# Altium footprint library MT7688_Lib.PcbLib: 7 footprints
Each footprint in its own frame and in the unit in brackets; x right, y up, seen from the top. Pads: shape width x height; smd on the part's side, far side on the other; paste and mask are expansions set on the pad; w line width, h text height; cw(c..) or ccw(c..) is an arc to the next point about the centre after c.
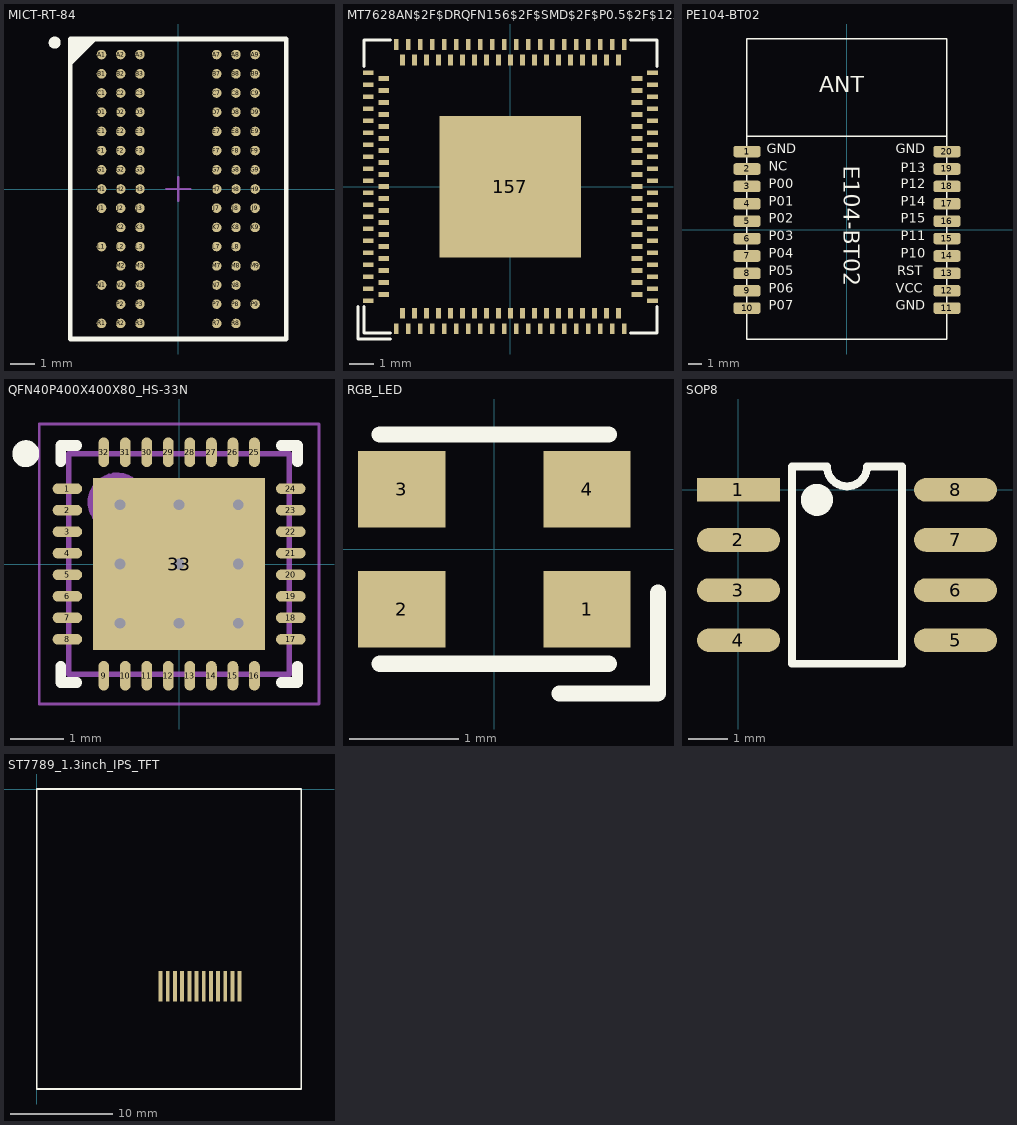
[diagram p0: the footprints below, top view; thin cyan lines are the x and y axes]

## MICT-RT-84 [mm] "BGA, 84-Balls, Body 12.5x9mm, Pitch 0.8mm"
pads (84):
  round 0.4 smd: A1(-3.2,5.6) A2(-2.4,5.6) A3(-1.6,5.6) A7(1.6,5.6) A8(2.4,5.6) A9(3.2,5.6) B1(-3.2,4.8) B2(-2.4,4.8) B3(-1.6,4.8) B7(1.6,4.8) B8(2.4,4.8) B9(3.2,4.8) C1(-3.2,4) C2(-2.4,4) C3(-1.6,4) C7(1.6,4) C8(2.4,4) C9(3.2,4) D1(-3.2,3.2) D2(-2.4,3.2) D3(-1.6,3.2) D7(1.6,3.2) D8(2.4,3.2) D9(3.2,3.2) E1(-3.2,2.4) E2(-2.4,2.4) E3(-1.6,2.4) E7(1.6,2.4) E8(2.4,2.4) E9(3.2,2.4) F1(-3.2,1.6) F2(-2.4,1.6) F3(-1.6,1.6) F7(1.6,1.6) F8(2.4,1.6) F9(3.2,1.6) G1(-3.2,0.8) G2(-2.4,0.8) G3(-1.6,0.8) G7(1.6,0.8) G8(2.4,0.8) G9(3.2,0.8) H1(-3.2,0) H2(-2.4,0) H3(-1.6,0) H7(1.6,0) H8(2.4,0) H9(3.2,0) J1(-3.2,-0.8) J2(-2.4,-0.8) J3(-1.6,-0.8) J7(1.6,-0.8) J8(2.4,-0.8) J9(3.2,-0.8) K2(-2.4,-1.6) K3(-1.6,-1.6) K7(1.6,-1.6) K8(2.4,-1.6) K9(3.2,-1.6) L1(-3.2,-2.4) L2(-2.4,-2.4) L3(-1.6,-2.4) L7(1.6,-2.4) L8(2.4,-2.4) M2(-2.4,-3.2) M3(-1.6,-3.2) M7(1.6,-3.2) M8(2.4,-3.2) M9(3.2,-3.2) N1(-3.2,-4) N2(-2.4,-4) N3(-1.6,-4) N7(1.6,-4) N8(2.4,-4) P2(-2.4,-4.8) P3(-1.6,-4.8) P7(1.6,-4.8) P8(2.4,-4.8) P9(3.2,-4.8) R1(-3.2,-5.6) R2(-2.4,-5.6) R3(-1.6,-5.6) R7(1.6,-5.6) R8(2.4,-5.6)
Top Overlay:
  circle w0.25: c-5.15,6.1 r0.125
  region: -3.5,6.25 -4.5,5.25 -4.5,6.25
  lines w0.2: -4.5,5.25 -3.5,6.25 ; -4.5,-6.25 4.5,-6.25 4.5,6.25 -4.5,6.25 -4.5,-6.25
Mechanical 13:
  lines w0.1: -4.5,-6.25 4.5,-6.25 4.5,6.25 -4.5,6.25 -4.5,-6.25
Mechanical 15:
  lines w0.1: -0.5,0 0.5,0 ; 0,-0.5 0,0.5
3D body: height 1.2, standoff 0, extent -4.5,-6.25 4.5,6.25

## MT7628AN$2F$DRQFN156$2F$SMD$2F$P0.5$2F$12X12 [mm]
height 0.9
pads (157):
  rect 0.19x0.45 smd: 1(-4.75,-5.925) 3(-4.25,-5.925) 5(-3.75,-5.925) 7(-3.25,-5.925) 9(-2.75,-5.925) 11(-2.25,-5.925) 13(-1.75,-5.925) 15(-1.25,-5.925) 17(-0.75,-5.925) 19(-0.25,-5.925) 21(0.25,-5.925) 23(0.75,-5.925) 25(1.25,-5.925) 27(1.75,-5.925) 29(2.25,-5.925) 31(2.75,-5.925) 33(3.25,-5.925) 35(3.75,-5.925) 37(4.25,-5.925) 39(4.75,-5.925) 79(4.75,5.925) 81(4.25,5.925) 83(3.75,5.925) 85(3.25,5.925) 87(2.75,5.925) 89(2.25,5.925) 91(1.75,5.925) 93(1.25,5.925) 95(0.75,5.925) 97(0.25,5.925) 99(-0.25,5.925) 101(-0.75,5.925) 103(-1.25,5.925) 105(-1.75,5.925) 107(-2.25,5.925) 109(-2.75,5.925) 111(-3.25,5.925) 113(-3.75,5.925) 115(-4.25,5.925) 117(-4.75,5.925)
  rect 0.22x0.45 smd: 2(-4.5,-5.275) 4(-4,-5.275) 6(-3.5,-5.275) 8(-3,-5.275) 10(-2.5,-5.275) 12(-2,-5.275) 14(-1.5,-5.275) 16(-1,-5.275) 18(-0.5,-5.275) 20(0,-5.275) 22(0.5,-5.275) 24(1,-5.275) 26(1.5,-5.275) 28(2,-5.275) 30(2.5,-5.275) 32(3,-5.275) 34(3.5,-5.275) 36(4,-5.275) 38(4.5,-5.275) 80(4.5,5.275) 82(4,5.275) 84(3.5,5.275) 86(3,5.275) 88(2.5,5.275) 90(2,5.275) 92(1.5,5.275) 94(1,5.275) 96(0.5,5.275) 98(0,5.275) 100(-0.5,5.275) 102(-1,5.275) 104(-1.5,5.275) 106(-2,5.275) 108(-2.5,5.275) 110(-3,5.275) 112(-3.5,5.275) 114(-4,5.275) 116(-4.5,5.275)
  rect 0.45x0.19 smd: 40(5.925,-4.75) 42(5.925,-4.25) 44(5.925,-3.75) 46(5.925,-3.25) 48(5.925,-2.75) 50(5.925,-2.25) 52(5.925,-1.75) 54(5.925,-1.25) 56(5.925,-0.75) 58(5.925,-0.25) 60(5.925,0.25) 62(5.925,0.75) 64(5.925,1.25) 66(5.925,1.75) 68(5.925,2.25) 70(5.925,2.75) 72(5.925,3.25) 74(5.925,3.75) 76(5.925,4.25) 78(5.925,4.75) 118(-5.925,4.75) 120(-5.925,4.25) 122(-5.925,3.75) 124(-5.925,3.25) 126(-5.925,2.75) 128(-5.925,2.25) 130(-5.925,1.75) 132(-5.925,1.25) 134(-5.925,0.75) 136(-5.925,0.25) 138(-5.925,-0.25) 140(-5.925,-0.75) 142(-5.925,-1.25) 144(-5.925,-1.75) 146(-5.925,-2.25) 148(-5.925,-2.75) 150(-5.925,-3.25) 152(-5.925,-3.75) 154(-5.925,-4.25) 156(-5.925,-4.75)
  rect 0.45x0.22 smd: 41(5.275,-4.5) 43(5.275,-4) 45(5.275,-3.5) 47(5.275,-3) 49(5.275,-2.5) 51(5.275,-2) 53(5.275,-1.5) 55(5.275,-1) 57(5.275,-0.5) 59(5.275,0) 61(5.275,0.5) 63(5.275,1) 65(5.275,1.5) 67(5.275,2) 69(5.275,2.5) 71(5.275,3) 73(5.275,3.5) 75(5.275,4) 77(5.275,4.5) 119(-5.275,4.5) 121(-5.275,4) 123(-5.275,3.5) 125(-5.275,3) 127(-5.275,2.5) 129(-5.275,2) 131(-5.275,1.5) 133(-5.275,1) 135(-5.275,0.5) 137(-5.275,0) 139(-5.275,-0.5) 141(-5.275,-1) 143(-5.275,-1.5) 145(-5.275,-2) 147(-5.275,-2.5) 149(-5.275,-3) 151(-5.275,-3.5) 153(-5.275,-4) 155(-5.275,-4.5)
  rect 5.9x5.9 smd: 157(0,0)
Top Overlay:
  lines w0.127: -6.35,-5 -6.35,-6.35 -5,-6.35 ; -6.1,-5 -6.1,-6.1 -5,-6.1 ; -6.1,5 -6.1,6.1 -5,6.1 ; 5,-6.1 6.1,-6.1 6.1,-5 ; 5,6.1 6.1,6.1 6.1,5
Top Paste:
  region: 0.2,-0.2 2.7,-0.2 2.7,-2.7 0.2,-2.7
  region: -2.7,-0.2 -0.2,-0.2 -0.2,-2.7 -2.7,-2.7
  region: 0.2,2.7 2.7,2.7 2.7,0.2 0.2,0.2
  region: -2.7,2.7 -0.2,2.7 -0.2,0.2 -2.7,0.2

## PE104-BT02 [mm] "22mm*14.70mm*2.7mm-S"
pads (20):
  rrect50% 2x0.85 smd: 1(-7.3,5.715) 2(-7.3,4.445) 3(-7.3,3.175) 4(-7.3,1.905) 5(-7.3,0.635) 6(-7.3,-0.635) 7(-7.3,-1.905) 8(-7.3,-3.175) 9(-7.3,-4.445) 10(-7.3,-5.715) 11(7.3,-5.715) 12(7.3,-4.445) 13(7.3,-3.175) 14(7.3,-1.905) 15(7.3,-0.635) 16(7.3,0.635) 17(7.3,1.905) 18(7.3,3.175) 19(7.3,4.445) 20(7.3,5.715)
Top Overlay:
  lines w0.1: -7.325,6.823 7.275,6.823 ; -7.325,-7.965 7.275,-7.965 7.275,13.935 -7.325,13.935 -7.325,-7.965
  text "ANT" at -2.032,9.652 h2
  text "E104-BT02" at -0.635,4.699 h2
  text "GND" at 3.556,-6.096 h1.2
  text "VCC" at 3.556,-4.826 h1.2
  text "RST" at 3.683,-3.556 h1.2
  text "P10" at 3.937,-2.286 h1.2
  text "P11" at 3.937,-1.016 h1.2
  text "GND" at 3.556,5.334 h1.2
  text "P13" at 3.937,3.937 h1.2
  text "P12" at 3.937,2.794 h1.2
  text "P14" at 3.937,1.524 h1.2
  text "P15" at 3.937,0.254 h1.2
  text "P02" at -5.715,0.254 h1.2
  text "P01" at -5.715,1.524 h1.2
  text "P00" at -5.715,2.794 h1.2
  text "NC" at -5.715,4.064 h1.2
  text "GND" at -5.842,5.334 h1.2
  text "P03" at -5.715,-1.016 h1.2
  text "P04" at -5.715,-2.286 h1.2
  text "P05" at -5.715,-3.556 h1.2
  text "P06" at -5.715,-4.826 h1.2
  text "P07" at -5.715,-6.096 h1.2

## QFN40P400X400X80_HS-33N [mm] "QFN, 32-Leads, Body 4.00x4.00mm, Pitch 0.40mm, Thermal Pad 3.20x3.20mm, IPC Medium Density"
height 0.8
pads (33):
  oval 0.55x0.2 smd: 1(-2.075,1.4) 2(-2.075,1) 3(-2.075,0.6) 4(-2.075,0.2) 5(-2.075,-0.2) 6(-2.075,-0.6) 7(-2.075,-1) 8(-2.075,-1.4) 17(2.075,-1.4) 18(2.075,-1) 19(2.075,-0.6) 20(2.075,-0.2) 21(2.075,0.2) 22(2.075,0.6) 23(2.075,1) 24(2.075,1.4)
  oval 0.2x0.55 smd: 9(-1.4,-2.075) 10(-1,-2.075) 11(-0.6,-2.075) 12(-0.2,-2.075) 13(0.2,-2.075) 14(0.6,-2.075) 15(1,-2.075) 16(1.4,-2.075) 25(1.4,2.075) 26(1,2.075) 27(0.6,2.075) 28(0.2,2.075) 29(-0.2,2.075) 30(-0.6,2.075) 31(-1,2.075) 32(-1.4,2.075)
  rect 3.2x3.2 smd: 33(0,0)
via 1.1,-1.1 diameter 0.5 hole 0.2
via 0,-1.1 diameter 0.5 hole 0.2
via -1.1,-1.1 diameter 0.5 hole 0.2
via 1.1,0 diameter 0.5 hole 0.2
via 0,0 diameter 0.5 hole 0.2
via -1.1,0 diameter 0.5 hole 0.2
via 1.1,1.1 diameter 0.5 hole 0.2
via 0,1.1 diameter 0.5 hole 0.2
via -1.1,1.1 diameter 0.5 hole 0.2
Top Overlay:
  circle w0.25: c-2.85,2.05 r0.125
  lines w0.2: -2.2,-1.9 -2.2,-2.2 -1.9,-2.2 ; -2.2,1.9 -2.2,2.2 -1.9,2.2 ; 1.9,-2.2 2.2,-2.2 2.2,-1.9 ; 1.9,2.2 2.2,2.2 2.2,1.9
Mechanical 13:
  circle w0.1: c-1.15,1.15 r0.5
  lines w0.1: -2.05,-2.05 2.05,-2.05 2.05,2.05 -2.05,2.05 -2.05,-2.05
Mechanical 15:
  lines w0.05: -2.6,-2.6 2.6,-2.6 2.6,2.6 -2.6,2.6 -2.6,-2.6
  lines w0.1: -0.5,0 0.5,0 ; 0,-0.5 0,0.5
3D body: height 0.8, standoff 0.01, extent -2.05,-2.05 2.05,2.05

## RGB_LED [mm]
pads (4):
  rect 0.8x0.7 smd: 1(0.85,-0.55) 2(-0.85,-0.55) 3(-0.85,0.55) 4(0.85,0.55)
Top Overlay:
  lines w0.15: -1.05,-1.05 1.05,-1.05 ; -1.05,1.05 1.05,1.05 ; 0.597,-1.323 1.497,-1.323 ; 1.5,-1.3 1.5,-0.4

## SOP8 [mm]
height 1.75
pads (8):
  rect 2.1x0.6 smd: 1(0,0)
  oval 2.1x0.6 smd: 2(0,-1.27) 3(0,-2.54) 4(0,-3.81) 5(5.5,-3.81) 6(5.5,-2.54) 7(5.5,-1.27) 8(5.5,0)
Top Overlay:
  circle w0.5: c1.988,-0.254 r0.155
  lines w0.2: 1.353,0.595 1.353,-4.405 4.147,-4.405 4.147,0.595
  lines w0.203: 1.353,0.595 2.242,0.595 ccw(c2.75,0.595) 2.75,0.087 ccw(c2.75,0.595) 3.258,0.595 4.147,0.595
3D body "SOP8.STEP": height 1.9, standoff 0, extent -0.361,-4.369 5.644,0.631

## ST7789_1.3inch_IPS_TFT [mm] "12P"
pads (12):
  rect 0.38x3 smd: 1(19.78,-19.22) 2(19.08,-19.22) 3(18.38,-19.22) 4(17.68,-19.22) 5(16.98,-19.22) 6(16.28,-19.22) 7(15.58,-19.22) 8(14.88,-19.22) 9(14.18,-19.22) 10(13.48,-19.22) 11(12.78,-19.22) 12(12.08,-19.22)
Top Overlay:
  lines w0.15: 0,-29.22 25.8,-29.22 25.8,0 0,0 0,-29.22